# EAGLE library part SN74LS193N (library 326298_rev_a)
Synchronous UP/DOWN COUNTER
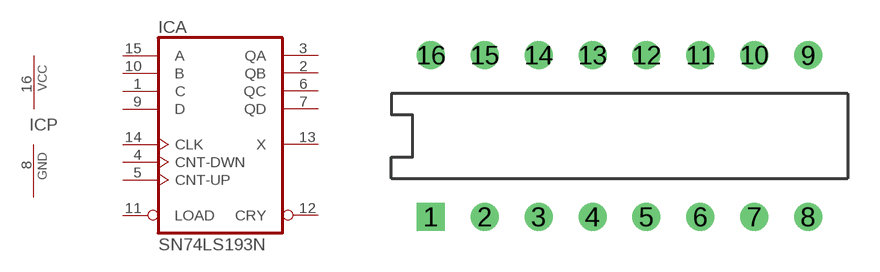
[diagram p20: symbol with the pads of DIL16; footprint DIL16]

Designator prefix IC; gates A=74193 P=PWRN

## SN74LS193NLSN  [DIL16]
1  A:C  in
2  A:QB  out
3  A:QA  out
4  A:CNT-DWN  in
5  A:CNT-UP  in
6  A:QC  out
7  A:QD  out
8  P:GND  pwr
9  A:D  in
10  A:B  in
11  A:LOAD  in
12  A:CRY  out
13  A:X  out
14  A:CLK  in
15  A:A  in
16  P:VCC  pwr

## Footprint DIL16 (pad centres in mm)
Dual In Line Package
drill 0.813 square: 1 0,0
drill 0.813: 2 2.54,0; 3 5.08,0; 4 7.62,0; 5 10.16,0; 6 12.7,0; 7 15.24,0; 8 17.78,0; 9 17.78,7.62; 10 15.24,7.62; 11 12.7,7.62; 12 10.16,7.62; 13 7.62,7.62; 14 5.08,7.62; 15 2.54,7.62; 16 0,7.62